# EAGLE library part BNO055 (library HyTechDevices)
9-DOF IMU Quaternion Gravity Linear Acceleration Robust Heading Rotation See datasheet <https://cdn-shop.adafruit.com/datasheets/BST_BNO055_DS000_12.pdf>
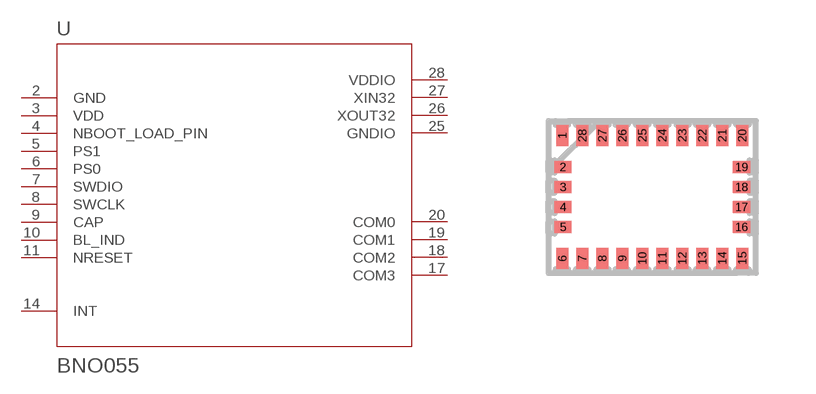
[diagram p46: symbol with the pads of QFN_BNO055; footprint QFN_BNO055]

Designator prefix U

## BNO055-SURFACE-MOUNT  [QFN_BNO055]
2  GND  pas
3  VDD  pwr
4  NBOOT_LOAD_PIN  in
5  PS1  in
6  PS0  in
7  SWDIO
8  SWCLK  in
9  CAP  pas
10  BL_IND  out
11  NRESET  pas
14  INT  out
17  COM3  in
18  COM2
19  COM1
20  COM0
25  GNDIO  pas
26  XOUT32  out
27  XIN32  in
28  VDDIO  pwr

## Footprint QFN_BNO055 (pad centres in mm)
smd 0.305 x 0.533: 1 -2.25,1.537; 6 -2.25,-1.537; 7 -1.75,-1.537; 8 -1.25,-1.537; 9 -0.75,-1.537; 10 -0.25,-1.537; 11 0.25,-1.537; 12 0.75,-1.537; 13 1.25,-1.537; 14 1.75,-1.537; 15 2.25,-1.537; 20 2.25,1.537; 21 1.75,1.537; 22 1.25,1.537; 23 0.75,1.537; 24 0.25,1.537; 25 -0.25,1.537; 26 -0.75,1.537; 27 -1.25,1.537; 28 -1.75,1.537
smd 0.432 x 0.305: 2 -2.235,0.75; 3 -2.235,0.25; 4 -2.235,-0.25; 5 -2.235,-0.75; 16 2.235,-0.75; 17 2.235,-0.25; 18 2.235,0.25; 19 2.235,0.75